# Altium footprint library SerDes_Eval_Board_Footprints.PcbLib: 32 footprints (part 2 of 2)
Each footprint in its own frame and in the unit in brackets; x right, y up, seen from the top. Pads: shape width x height; smd on the part's side, far side on the other; paste and mask are expansions set on the pad; w line width, h text height; cw(c..) or ccw(c..) is an arc to the next point about the centre after c.
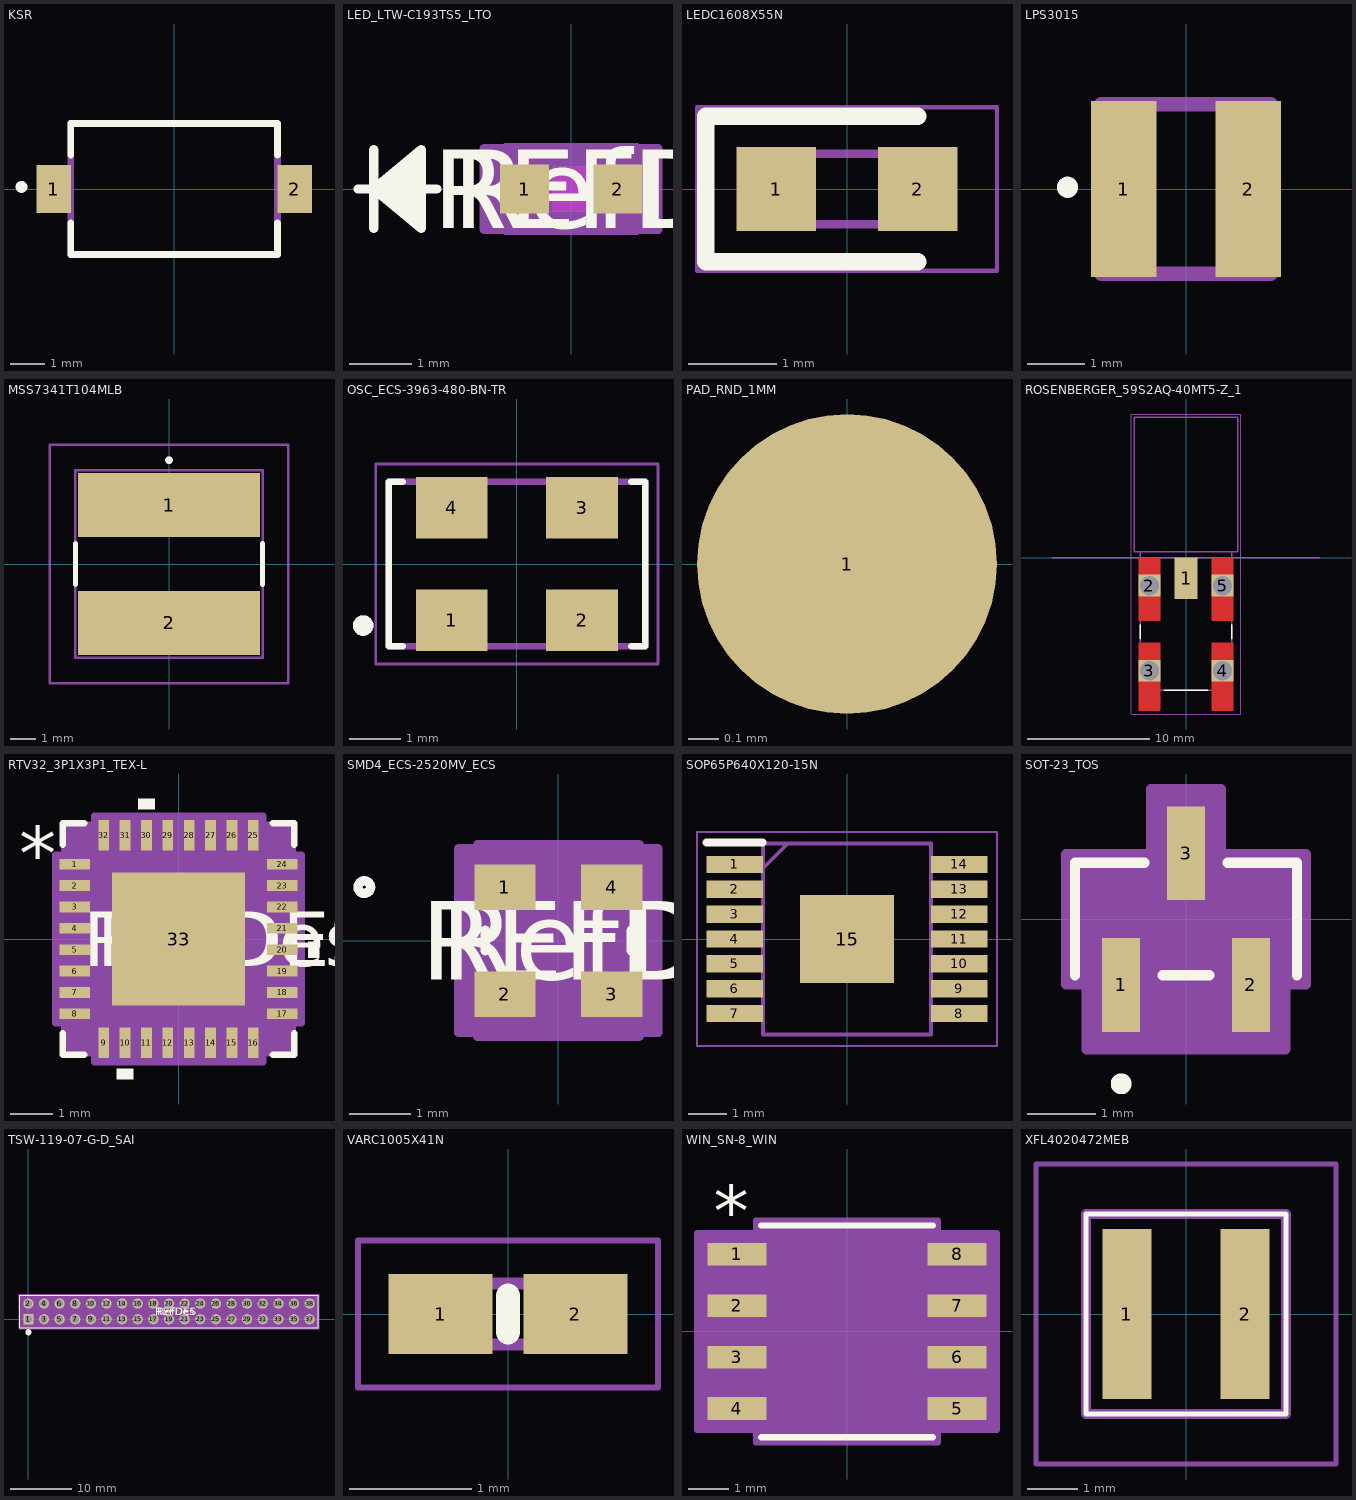
[diagram p1: the footprints below, top view; thin cyan lines are the x and y axes]

## KSR [mm]
pads (2):
  rect 1x1.4 smd: 1(-3.5,0) 2(3.5,0)
Top Overlay:
  circle w0.2: c-4.429,0.061 r0.072
  lines w0.2: -3,-0.985 -3,-1.9 3,-1.9 3,-0.985 ; -3,0.985 -3,1.9 3,1.9 3,0.985
Mechanical 13:
  lines w0.2: -3,-1.9 3,-1.9 3,1.9 -3,1.9 -3,-1.9
3D body "KSR221G_LFS.stp": height 2.5, standoff 0, extent -3.68,-1.92 3.62,1.92

## LED_LTW-C193TS5_LTO [mil]
pads (2):
  rect 31x31 smd paste+0 mask+0: 1(-29.5,0) 2(29.5,0)
Top Layer keep-out:
  region: -12,-14 -12,14 12,14 12,-14
Top Overlay:
  lines w6: -135,0 -85,0 ; -125,-25 -125,25 ; -95,-20 -125,0 ; -95,-15 -125,0 ; -95,-10 -125,0 ; -95,-5 -125,0 ; -95,5 -125,0 ; -95,10 -125,0 ; -95,15 -125,0 ; -95,20 -125,0 ; -125,0 -95,25 -95,-25 -125,0
  text "RefDes" at -75,-25 h50
  text "REFDES" at -87.5,-25 h50
Mechanical 13:
  lines w1: -135,0 -85,0 ; -125,-25 -125,25 ; -95,-20 -125,0 ; -95,-15 -125,0 ; -95,-10 -125,0 ; -95,-5 -125,0 ; -95,5 -125,0 ; -95,10 -125,0 ; -95,15 -125,0 ; -95,20 -125,0 ; -125,0 -95,25 -95,-25 -125,0 ; -31.5,-16 31.5,-16 31.5,16 -31.5,16 -31.5,-16
  text "RefDes2" at -87.5,-25 h50
Mechanical 15:
  region: -41.5,-25.5 -55,-25.5 -55,25.5 -41.5,25.5 -41.5,26 41.5,26 41.5,25.5 55,25.5 55,-25.5 41.5,-25.5 41.5,-26 -41.5,-26
  lines w6: -55,-25.5 -55,25.5 -41.5,25.5 -41.5,26 41.5,26 41.5,25.5 55,25.5 55,-25.5 41.5,-25.5 41.5,-26 -41.5,-26 -41.5,-25.5 -55,-25.5
3D body "LED_LTW-C193TS5_LTO.step": height 14.02, standoff 0, extent -31.5,-16.1 31.5,16.1

## LEDC1608X55N [mm]
pads (2):
  rect 0.9x0.95 smd: 1(-0.8,0) 2(0.8,0)
Top Overlay:
  lines w0.2: 0.8,-0.825 -1.6,-0.825 -1.6,0.825 0.8,0.825
Mechanical 13:
  lines w0.1: -0.8,0.133 -0.533,0.4 ; -0.8,-0.4 -0.8,0.4 0.8,0.4 0.8,-0.4 -0.8,-0.4
Mechanical 15:
  lines w0.05: -1.7,-0.925 -1.7,0.925 1.7,0.925 1.7,-0.925 -1.7,-0.925
3D body "LTST-C191KRKT.stp": height 0.55, standoff 0, extent -0.83,-0.4 0.77,0.4

## LPS3015 [mm]
pads (2):
  rect 1.14x3.05 smd: 1(-1.08,0) 2(1.08,0)
Top Overlay:
  circle w0.254: c-2.057,0.03 r0.057
Mechanical 13:
  lines w0.254: -1.475,-1.475 1.475,-1.475 1.475,1.475 -1.475,1.475 -1.475,-1.475
3D body "Coilcraft-LPS3015.STEP": height 1.5, standoff 0, extent -1.515,-1.515 1.515,1.515

## MSS7341T104MLB [mm]
pads (2):
  rect 7.1x2.5 smd: 1(0,2.3) 2(0,-2.3)
Top Overlay:
  lines w0.2: -3.65,-0.8 -3.65,0.8 ; 3.65,-0.8 3.65,0.8 ; 0,4 ccw(c0,4.05) 0,4.1 ; 0,4 cw(c0,4.05) 0,4.1 ; 0,4 ccw(c0,4.05) 0,4.1
Mechanical 13:
  lines w0.1: -3.65,-3.65 -3.65,3.65 3.65,3.65 3.65,-3.65 -3.65,-3.65
Mechanical 15:
  lines w0.1: -4.65,-4.65 -4.65,4.65 4.65,4.65 4.65,-4.65 -4.65,-4.65
3D body "Coilcraft-MSS7341T.STEP": height 4.08, standoff -0.02, extent -3.78,-3.78 3.78,3.779

## OSC_ECS-3963-480-BN-TR [mm]
pads (4):
  rect 1.4x1.2 smd: 1(-1.27,-1.1) 2(1.27,-1.1) 3(1.27,1.1) 4(-1.27,1.1)
Top Overlay:
  circle w0.2: c-3,-1.2 r0.1
  lines w0.127: -2.224,-1.6 -2.5,-1.6 -2.5,1.6 -2.224,1.6 ; 2.224,-1.6 2.5,-1.6 2.5,1.6 2.224,1.6
Mechanical 13:
  circle w0.2: c-3,-1.2 r0.1
  lines w0.127: -2.5,-1.6 -2.5,1.6 2.5,1.6 2.5,-1.6 -2.5,-1.6
Mechanical 15:
  lines w0.05: -2.75,-1.95 -2.75,1.95 2.75,1.95 2.75,-1.95 -2.75,-1.95
3D body "ECS-3963-480-BN-TR.STEP": height 1.3, standoff 0, extent -2.5,-1.6 2.5,1.6

## PAD_RND_1MM [mm]
pads (1):
  round 1 smd paste-0.5 mask+0: 1(0,0)

## ROSENBERGER_59S2AQ-40MT5-Z_1 [mm]
pads (5):
  rect 1.9x3.4 smd: 1(0,-1.7)
  rect 1.8x1.8 hole 1.6: 2(-3,-2.3) 3(-3,-9.3) 4(3,-9.3) 5(3,-2.3)
Top Layer:
  region: -2.1,-5.2 -3.9,-5.2 -3.9,0 -2.1,0
  region: 3.9,-5.2 2.1,-5.2 2.1,0 3.9,0
  region: -2.1,-12.6 -3.9,-12.6 -3.9,-7 -2.1,-7
  region: 3.9,-12.6 2.1,-12.6 2.1,-7 3.9,-7
Top Overlay:
  lines w0.127: -3.75,-6.68 -3.75,-5.52 ; -1.78,-10.9 1.78,-10.9 ; 3.75,-6.68 3.75,-5.52
Top Paste:
  region: 3.9,-5.2 2.1,-5.2 2.1,0 3.9,0
  region: -2.1,-5.2 -3.9,-5.2 -3.9,0 -2.1,0
  region: -2.1,-12.6 -3.9,-12.6 -3.9,-7 -2.1,-7
  region: 3.9,-12.6 2.1,-12.6 2.1,-7 3.9,-7
Top Solder:
  region: -2,-5.3 -4,-5.3 -4,0.1 -2,0.1
  region: 4,-5.3 2,-5.3 2,0.1 4,0.1
  region: -2,-12.7 -4,-12.7 -4,-6.9 -2,-6.9
  region: 4,-12.7 2,-12.7 2,-6.9 4,-6.9
Mechanical 13:
  lines w0.127: -11,0 11,0 ; -3.75,0.5 -3.75,-10.9 3.75,-10.9 3.75,0.5 ; -3.75,0.5 -4.25,0.5 -4.25,11.55 4.25,11.55 4.25,0.5 3.75,0.5 ; -3.75,0.5 3.75,0.5
  text "PCB EDGE" at 5.1,0.1 h0.81
Mechanical 15:
  lines w0.05: -4.5,-12.85 -4.5,11.8 4.5,11.8 4.5,-12.85 -4.5,-12.85
3D body "59s2aq-40mxx-z_1_i00_shrink.stp": height 6.25, standoff -3.75, extent -4.25,-10.986 4.25,11.464

## RTV32_3P1X3P1_TEX-L [mm]
pads (33):
  rect 0.703x0.249 smd paste+0 mask+0: 1(-2.427,1.75) 2(-2.427,1.25) 3(-2.427,0.75) 4(-2.427,0.25) 5(-2.427,-0.25) 6(-2.427,-0.75) 7(-2.427,-1.25) 8(-2.427,-1.75) 17(2.427,-1.75) 18(2.427,-1.25) 19(2.427,-0.75) 20(2.427,-0.25) 21(2.427,0.25) 22(2.427,0.75) 23(2.427,1.25) 24(2.427,1.75)
  rect 0.249x0.703 smd paste+0 mask+0: 9(-1.75,-2.427) 10(-1.25,-2.427) 11(-0.75,-2.427) 12(-0.25,-2.427) 13(0.25,-2.427) 14(0.75,-2.427) 15(1.25,-2.427) 16(1.75,-2.427) 25(1.75,2.427) 26(1.25,2.427) 27(0.75,2.427) 28(0.25,2.427) 29(-0.25,2.427) 30(-0.75,2.427) 31(-1.25,2.427) 32(-1.75,2.427)
  rect 3.1x3.1 smd paste-1.55 mask+0: 33(0,0)
Top Overlay:
  region: -1.06,-3.032 -1.441,-3.032 -1.441,-3.286 -1.06,-3.286
  region: 3.032,-0.059 3.286,-0.059 3.286,-0.44 3.032,-0.44
  region: -0.56,3.032 -0.941,3.032 -0.941,3.286 -0.56,3.286
  lines w0.152: -2.702,-2.207 -2.702,-2.702 -2.207,-2.702 ; -2.702,2.207 -2.702,2.702 -2.207,2.702 ; 2.207,-2.702 2.702,-2.702 2.702,-2.207 ; 2.207,2.702 2.702,2.702 2.702,2.207
  text "*" at -3.731,1.365 h1.27
  text "RefDes" at -1.905,-0.635 h1.27
  text "REFDES" at -2.222,-0.635 h1.27
Top Paste:
  region: -0.1,1.45 -1.45,1.45 -1.45,0.1 -0.1,0.1
  region: -0.1,-0.1 -1.45,-0.1 -1.45,-1.45 -0.1,-1.45
  region: 1.45,1.45 0.1,1.45 0.1,0.1 1.45,0.1
  region: 1.45,-0.1 0.1,-0.1 0.1,-1.45 1.45,-1.45
Mechanical 13:
  lines w0.025: -2.575,1.305 -1.305,2.575 ; -2.575,-2.575 2.575,-2.575 2.575,2.575 -2.575,2.575 -2.575,-2.575 ; -2.575,-1.9 -2.575,-1.6 -2.575,-1.9 ; -2.575,-1.4 -2.575,-1.1 -2.575,-1.4 ; -2.575,-0.9 -2.575,-0.6 -2.575,-0.9 ; -2.575,-0.4 -2.575,-0.1 -2.575,-0.4 ; -2.575,0.1 -2.575,0.4 -2.575,0.1 ; -2.575,0.6 -2.575,0.9 -2.575,0.6 ; -2.575,1.1 -2.575,1.4 -2.575,1.1 ; -2.575,1.6 -2.575,1.9 -2.575,1.6 ; -1.9,-2.575 -1.6,-2.575 -1.9,-2.575 ; -1.9,2.575 -1.6,2.575 -1.9,2.575 ; -1.4,-2.575 -1.1,-2.575 -1.4,-2.575 ; -1.4,2.575 -1.1,2.575 -1.4,2.575 ; -0.9,-2.575 -0.6,-2.575 -0.9,-2.575 ; -0.9,2.575 -0.6,2.575 -0.9,2.575 ; -0.4,-2.575 -0.1,-2.575 -0.4,-2.575 ; -0.4,2.575 -0.1,2.575 -0.4,2.575 ; 0.1,-2.575 0.4,-2.575 0.1,-2.575 ; 0.1,2.575 0.4,2.575 0.1,2.575 ; 0.6,-2.575 0.9,-2.575 0.6,-2.575 ; 0.6,2.575 0.9,2.575 0.6,2.575 ; 1.1,-2.575 1.4,-2.575 1.1,-2.575 ; 1.1,2.575 1.4,2.575 1.1,2.575 ; 1.6,-2.575 1.9,-2.575 1.6,-2.575 ; 1.6,2.575 1.9,2.575 1.6,2.575 ; 2.575,-1.9 2.575,-1.6 2.575,-1.9 ; 2.575,-1.4 2.575,-1.1 2.575,-1.4 ; 2.575,-0.9 2.575,-0.6 2.575,-0.9 ; 2.575,-0.4 2.575,-0.1 2.575,-0.4 ; 2.575,0.1 2.575,0.4 2.575,0.1 ; 2.575,0.6 2.575,0.9 2.575,0.6 ; 2.575,1.1 2.575,1.4 2.575,1.1 ; 2.575,1.6 2.575,1.9 2.575,1.6
  text "*" at -2.392,1.365 h1.27
  text "RefDes2" at -2.222,-0.635 h1.27
Mechanical 15:
  region: -1.976,-2.677 -2.677,-2.677 -2.677,-1.976 -2.88,-1.976 -2.88,1.976 -2.677,1.976 -2.677,2.677 -1.976,2.677 -1.976,2.88 1.976,2.88 1.976,2.677 2.677,2.677 2.677,1.976 2.88,1.976 2.88,-1.976 2.677,-1.976 2.677,-2.677 1.976,-2.677 1.976,-2.88 -1.976,-2.88
  lines w0.152: -2.88,-1.976 -2.677,-1.976 -2.677,-2.677 -1.976,-2.677 -1.976,-2.88 1.976,-2.88 1.976,-2.677 2.677,-2.677 2.677,-1.976 2.88,-1.976 2.88,1.976 2.677,1.976 2.677,2.677 1.976,2.677 1.976,2.88 -1.976,2.88 -1.976,2.677 -2.677,2.677 -2.677,1.976 -2.88,1.976 -2.88,-1.976
3D body "RTV32_3P1X3P1_TEX.step": height 0.8, standoff 0, extent -2.575,-2.575 2.575,2.575

## SMD4_ECS-2520MV_ECS [mil]
pads (4):
  rect 39x29 smd paste+0 mask+0: 1(-34,34.06) 2(-34,-34.06) 3(34,-34.06) 4(34,34.06)
Top Overlay:
  circle w6: c-123.61,34.06 r4
  lines w6: -46.5,-6.46 -46.5,6.46 ; 46.5,-6.46 46.5,6.46
  text "REFDES" at -87.5,-25 h50
  text "RefDes" at -75,-25 h50
Mechanical 13:
  circle w0: c-14.5,34.06 r3
  lines w0: -12,51 ccw(c0,51) 12,51
  lines w1: -41.5,-51 -41.5,51 41.5,51 41.5,-51 -41.5,-51
  text "RefDes2" at -87.5,-25 h50
Mechanical 15:
  region: -51.5,-58.56 -63.5,-58.56 -63.5,58.56 -51.5,58.56 -51.5,61 51.5,61 51.5,58.56 63.5,58.56 63.5,-58.56 51.5,-58.56 51.5,-61 -51.5,-61
  lines w6: -63.5,-58.56 -51.5,-58.56 -51.5,-61 51.5,-61 51.5,-58.56 63.5,-58.56 63.5,58.56 51.5,58.56 51.5,61 -51.5,61 -51.5,58.56 -63.5,58.56 -63.5,-58.56
3D body "SMD4_ECS-2520MV_ECS.step": height 32.09, standoff 0, extent -41.5,-50.98 41.5,50.98

## SOP65P640X120-15N [mm]
pads (15):
  rect 1.475x0.45 smd: 1(-2.938,1.95) 2(-2.938,1.3) 3(-2.938,0.65) 4(-2.938,0) 5(-2.938,-0.65) 6(-2.938,-1.3) 7(-2.938,-1.95) 8(2.938,-1.95) 9(2.938,-1.3) 10(2.938,-0.65) 11(2.938,0) 12(2.938,0.65) 13(2.938,1.3) 14(2.938,1.95)
  rect 2.46x2.31 smd: 15(0,0)
Top Overlay:
  lines w0.2: -3.675,2.525 -2.2,2.525
Mechanical 13:
  lines w0.1: -2.2,1.85 -1.55,2.5 ; -2.2,-2.5 -2.2,2.5 2.2,2.5 2.2,-2.5 -2.2,-2.5
Mechanical 15:
  lines w0.05: -3.925,-2.8 -3.925,2.8 3.925,2.8 3.925,-2.8 -3.925,-2.8
3D body "TPS65320QPWPRQ1.stp": height 1.13, standoff 0, extent -3.2,-2.5 3.2,2.5

## SOT-23_TOS [mil]
pads (3):
  rect 22x54 smd paste+0 mask+0: 1(-37.4,-38) 2(37.4,-38) 3(0,38)
Top Overlay:
  circle w6: c-37.4,-95 r3
  lines w6: -64,-32.5 -64,32.5 -24.1,32.5 ; -13.3,-32.5 13.3,-32.5 ; 24.1,32.5 64,32.5 64,-32.5
  text ".Designator" at -137.5,-25 h50
Mechanical 13:
  circle w1: c-37.4,-17.5 r3
  lines w1: -59,-27.5 -59,27.5 59,27.5 59,-27.5 -59,-27.5 ; -47.4,-51 -27.4,-51 -27.4,-27.5 -47.4,-27.5 -47.4,-51 ; -10,27.5 -10,51 10,51 10,27.5 -10,27.5 ; 27.4,-51 47.4,-51 47.4,-27.5 27.4,-27.5 27.4,-51
  text ".Designator" at -137.5,-25 h50
Mechanical 15:
  region: -69,-37.5 -69,37.5 -20,37.5 -20,75 20,75 20,37.5 69,37.5 69,-37.5 57.4,-37.5 57.4,-75 -57.4,-75 -57.4,-37.5
  lines w6: -69,-37.5 -57.4,-37.5 -57.4,-75 57.4,-75 57.4,-37.5 69,-37.5 69,37.5 20,37.5 20,75 -20,75 -20,37.5 -69,37.5 -69,-37.5
3D body "SOT-23_TOS.step": height 39.09, standoff 0, extent -59.02,-50.98 59.02,50.98

## TSW-119-07-G-D_SAI [mil]
pads (38):
  rect 65x65 / inner round 60 / far side rect 65x65 hole 45 paste-99999 mask+0: 1(0,0)
  round 65 / inner round 60 / far side round 65 hole 45 paste-99999 mask+0: 2(0,100) 3(100,0) 4(100,100) 5(200,0) 6(200,100) 7(300,0) 8(300,100) 9(400,0) 10(400,100) 11(500,0) 12(500,100) 13(600,0) 14(600,100) 15(700,0) 16(700,100) 17(800,0) 18(800,100) 19(900,0) 20(900,100) 21(1000,0) 22(1000,100) 23(1100,0) 24(1100,100) 25(1200,0) 26(1200,100) 27(1300,0) 28(1300,100) 29(1400,0) 30(1400,100) 31(1500,0) 32(1500,100) 33(1600,0) 34(1600,100) 35(1700,0) 36(1700,100) 37(1800,0) 38(1800,100)
Top Overlay:
  circle w20: c0,-83 r10
  lines w6: -55,-55 1855,-55 1855,155 -55,155 -55,-55
  text "RefDes" at 825,25 h50
  text "REFDES" at 812.5,25 h50
Mechanical 13:
  circle w0: c0,-35 r10
  lines w1: -50,-50 1850,-50 1850,150 -50,150 -50,-50
  text "RefDes2" at 812.5,25 h50
Mechanical 15:
  region: 1860,160 -60,160 -60,-60 1860,-60
  lines w6: -60,-60 -60,160 1860,160 1860,-60 -60,-60
3D body "TSW-119-07-G-D_SAI.step": height 330, standoff -200, extent -45,-50 1855,150

## VARC1005X41N [mm]
pads (2):
  rect 0.85x0.65 smd: 1(-0.55,0) 2(0.55,0)
Top Overlay:
  lines w0.2: 0,-0.15 0,0.15
Mechanical 13:
  lines w0.1: -0.5,-0.25 0.5,-0.25 0.5,0.25 -0.5,0.25 -0.5,-0.25
Mechanical 15:
  lines w0.05: -1.225,-0.6 1.225,-0.6 1.225,0.6 -1.225,0.6 -1.225,-0.6
3D body "CG0402MLU-3.3G.stp": height 0.41, standoff 0, extent -0.5,-0.25 0.5,0.25

## WIN_SN-8_WIN [mil]
pads (8):
  rect 57.5x22 smd paste+0 mask+0: 1(-107.25,75) 2(-107.25,25) 3(-107.25,-25) 4(-107.25,-75) 5(107.25,-75) 6(107.25,-25) 7(107.25,25) 8(107.25,75)
Top Overlay:
  lines w6: -83.5,-103 83.5,-103 ; -83.5,103 83.5,103
  text ".Designator" at -137.5,-25 h50
  text "*" at -129.75,92 h50
Mechanical 13:
  lines w1: -12,98 ccw(c0,98) 12,98 ; -122,-85 -122,-65 -78.5,-65 -78.5,-85 -122,-85 ; -122,-35 -122,-15 -78.5,-15 -78.5,-35 -122,-35 ; -122,15 -122,35 -78.5,35 -78.5,15 -122,15 ; -122,65 -122,85 -78.5,85 -78.5,65 -122,65 ; -78.5,-98 78.5,-98 78.5,98 -78.5,98 -78.5,-98 ; 78.5,-85 78.5,-65 122,-65 122,-85 78.5,-85 ; 78.5,-35 78.5,-15 122,-15 122,-35 78.5,-35 ; 78.5,15 78.5,35 122,35 122,15 78.5,15 ; 78.5,65 78.5,85 122,85 122,65 78.5,65
  text "*" at -76,45 h50
  text ".Designator" at -137.5,-25 h50
Mechanical 15:
  region: -88.5,-96 -146,-96 -146,96 -88.5,96 -88.5,108 88.5,108 88.5,96 146,96 146,-96 88.5,-96 88.5,-108 -88.5,-108
  lines w6: -146,-96 -146,96 -88.5,96 -88.5,108 88.5,108 88.5,96 146,96 146,-96 88.5,-96 88.5,-108 -88.5,-108 -88.5,-96 -146,-96
3D body "WIN_SN-8_WIN.step": height 69.09, standoff 0, extent -122.01,-97.99 122.01,97.99

## XFL4020472MEB [mm]
pads (2):
  rect 0.98x3.4 smd: 1(-1.185,0) 2(1.185,0)
Top Overlay:
  lines w0.1: -2,-2 -2,2 2,2 2,-2 -2,-2
Mechanical 13:
  lines w0.2: -2,-2 -2,2 2,2 2,-2 -2,-2
Mechanical 15:
  lines w0.1: -3,-3 -3,3 3,3 3,-3 -3,-3
3D body "XFL4020-472MEB.stp": height 2.2, standoff 0, extent -2,-2 2,2